# Altium schematic symbol library AP1509-33SG-13.SchLib: 2 symbols
Pins are listed as number, name and electrical type; pins without a type are passive.

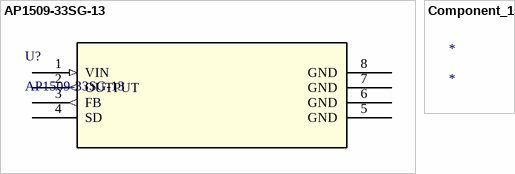
[diagram p0: symbols AP1509-33SG-13 to Component_1]

## AP1509-33SG-13
designator U?
No Description Available; Mfr_Name: Diodes Inc; Copyright: Copyright (C) 2022 Ultra Librarian. All rights reserved.; Manufacturer_Part_Number: AP1509-33SG-13; Digi-Key_Part_Number_1: AP1509-33SGDICT-ND; Digi-Key_Part_Number_2: AP1509-33SGDIDKR-ND; Digi-Key_Part_Number_3: AP1509-33SGDITR-ND; RefDes: RefDes; Type: DEV
footprint SOP-8L_DIO
pins: 1 VIN (in), 2 OUTPUT (out), 3 FB (out), 4 SD, 5 GND (power), 6 GND (power), 7 GND (power), 8 GND (power)

## Component_1
designator *